# EAGLE library part IMX357 (library JLB6_Processor)
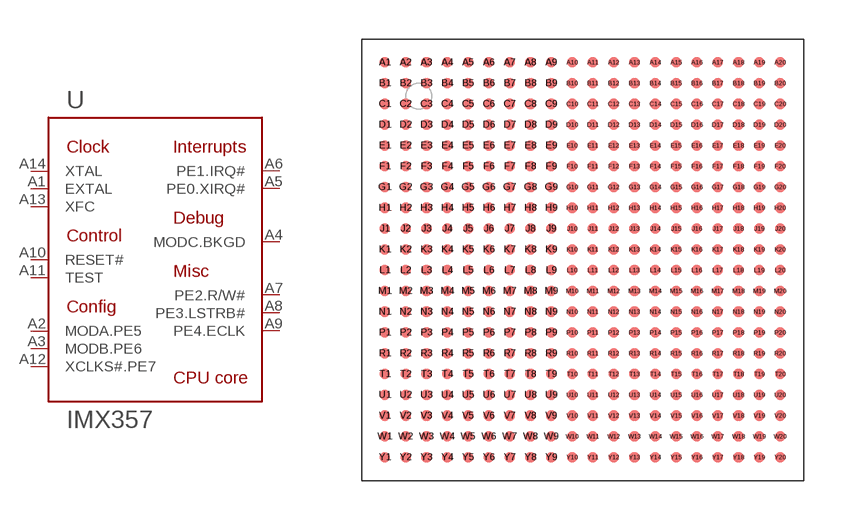
[diagram p25: symbol with the pads of BGA400; footprint BGA400]

Designator prefix U

## IMX357  [BGA400]
A1  EXTAL  in
A2  MODA.PE5
A3  MODB.PE6
A4  MODC.BKGD
A5  PE0.XIRQ#
A6  PE1.IRQ#
A7  PE2.R/W#
A8  PE3.LSTRB#
A9  PE4.ECLK
A10  RESET#
A11  TEST
A12  XCLKS#.PE7
A13  XFC
A14  XTAL  out

## Footprint BGA400 (pad centres in mm)
smd 0.4 x 0.4: A1 -7.6,7.6; A2 -6.8,7.6; A3 -6,7.6; A4 -5.2,7.6; A5 -4.4,7.6; A6 -3.6,7.6; A7 -2.8,7.6; A8 -2,7.6; A9 -1.2,7.6; A10 -0.4,7.6; A11 0.4,7.6; A12 1.2,7.6; A13 2,7.6; A14 2.8,7.6; A15 3.6,7.6; A16 4.4,7.6; A17 5.2,7.6; A18 6,7.6; A19 6.8,7.6; A20 7.6,7.6; B1 -7.6,6.8; B2 -6.8,6.8; B3 -6,6.8; B4 -5.2,6.8; B5 -4.4,6.8; B6 -3.6,6.8; B7 -2.8,6.8; B8 -2,6.8; B9 -1.2,6.8; B10 -0.4,6.8; B11 0.4,6.8; B12 1.2,6.8; B13 2,6.8; B14 2.8,6.8; B15 3.6,6.8; B16 4.4,6.8; B17 5.2,6.8; B18 6,6.8; B19 6.8,6.8; B20 7.6,6.8; C1 -7.6,6; C2 -6.8,6; C3 -6,6; C4 -5.2,6; C5 -4.4,6; C6 -3.6,6; C7 -2.8,6; C8 -2,6; C9 -1.2,6; C10 -0.4,6; C11 0.4,6; C12 1.2,6; C13 2,6; C14 2.8,6; C15 3.6,6; C16 4.4,6; C17 5.2,6; C18 6,6; C19 6.8,6; C20 7.6,6; D1 -7.6,5.2; D2 -6.8,5.2; D3 -6,5.2; D4 -5.2,5.2; D5 -4.4,5.2; D6 -3.6,5.2; D7 -2.8,5.2; D8 -2,5.2; D9 -1.2,5.2; D10 -0.4,5.2; D11 0.4,5.2; D12 1.2,5.2; D13 2,5.2; D14 2.8,5.2; D15 3.6,5.2; D16 4.4,5.2; D17 5.2,5.2; D18 6,5.2; D19 6.8,5.2; D20 7.6,5.2; E1 -7.6,4.4; E2 -6.8,4.4; E3 -6,4.4; E4 -5.2,4.4; E5 -4.4,4.4; E6 -3.6,4.4; E7 -2.8,4.4; E8 -2,4.4; E9 -1.2,4.4; E10 -0.4,4.4; E11 0.4,4.4; E12 1.2,4.4; E13 2,4.4; E14 2.8,4.4; E15 3.6,4.4; E16 4.4,4.4; E17 5.2,4.4; E18 6,4.4; E19 6.8,4.4; E20 7.6,4.4; F1 -7.6,3.6; F2 -6.8,3.6; F3 -6,3.6; F4 -5.2,3.6; F5 -4.4,3.6; F6 -3.6,3.6; F7 -2.8,3.6; F8 -2,3.6; F9 -1.2,3.6; F10 -0.4,3.6; F11 0.4,3.6; F12 1.2,3.6; F13 2,3.6; F14 2.8,3.6; F15 3.6,3.6; F16 4.4,3.6; F17 5.2,3.6; F18 6,3.6; F19 6.8,3.6; F20 7.6,3.6; G1 -7.6,2.8; G2 -6.8,2.8; G3 -6,2.8; G4 -5.2,2.8; G5 -4.4,2.8; G6 -3.6,2.8; G7 -2.8,2.8; G8 -2,2.8; G9 -1.2,2.8; G10 -0.4,2.8; G11 0.4,2.8; G12 1.2,2.8; G13 2,2.8; G14 2.8,2.8; G15 3.6,2.8; G16 4.4,2.8; G17 5.2,2.8; G18 6,2.8; G19 6.8,2.8; G20 7.6,2.8; H1 -7.6,2; H2 -6.8,2; H3 -6,2; H4 -5.2,2; H5 -4.4,2; H6 -3.6,2; H7 -2.8,2; H8 -2,2; H9 -1.2,2; H10 -0.4,2; H11 0.4,2; H12 1.2,2; H13 2,2; H14 2.8,2; H15 3.6,2; H16 4.4,2; H17 5.2,2; H18 6,2; H19 6.8,2; H20 7.6,2; J1 -7.6,1.2; J2 -6.8,1.2; J3 -6,1.2; J4 -5.2,1.2; J5 -4.4,1.2; J6 -3.6,1.2; J7 -2.8,1.2; J8 -2,1.2; J9 -1.2,1.2; J10 -0.4,1.2; J11 0.4,1.2; J12 1.2,1.2; J13 2,1.2; J14 2.8,1.2; J15 3.6,1.2; J16 4.4,1.2; J17 5.2,1.2; J18 6,1.2; J19 6.8,1.2; J20 7.6,1.2; K1 -7.6,0.4; K2 -6.8,0.4; K3 -6,0.4; K4 -5.2,0.4; K5 -4.4,0.4; K6 -3.6,0.4; K7 -2.8,0.4; K8 -2,0.4; K9 -1.2,0.4; K10 -0.4,0.4; K11 0.4,0.4; K12 1.2,0.4; K13 2,0.4; K14 2.8,0.4; K15 3.6,0.4; K16 4.4,0.4; K17 5.2,0.4; K18 6,0.4; K19 6.8,0.4; K20 7.6,0.4; L1 -7.6,-0.4; L2 -6.8,-0.4; L3 -6,-0.4; L4 -5.2,-0.4; L5 -4.4,-0.4; L6 -3.6,-0.4; L7 -2.8,-0.4; L8 -2,-0.4; L9 -1.2,-0.4; L10 -0.4,-0.4; L11 0.4,-0.4; L12 1.2,-0.4; L13 2,-0.4; L14 2.8,-0.4; L15 3.6,-0.4; L16 4.4,-0.4; L17 5.2,-0.4; L18 6,-0.4; L19 6.8,-0.4; L20 7.6,-0.4; M1 -7.6,-1.2; M2 -6.8,-1.2; M3 -6,-1.2; M4 -5.2,-1.2; M5 -4.4,-1.2; M6 -3.6,-1.2; M7 -2.8,-1.2; M8 -2,-1.2; M9 -1.2,-1.2; M10 -0.4,-1.2; M11 0.4,-1.2; M12 1.2,-1.2; M13 2,-1.2; M14 2.8,-1.2; M15 3.6,-1.2; M16 4.4,-1.2; M17 5.2,-1.2; M18 6,-1.2; M19 6.8,-1.2; M20 7.6,-1.2; N1 -7.6,-2; N2 -6.8,-2; N3 -6,-2; N4 -5.2,-2; N5 -4.4,-2; N6 -3.6,-2; N7 -2.8,-2; N8 -2,-2; N9 -1.2,-2; N10 -0.4,-2; N11 0.4,-2; N12 1.2,-2; N13 2,-2; N14 2.8,-2; N15 3.6,-2; N16 4.4,-2; N17 5.2,-2; N18 6,-2; N19 6.8,-2; N20 7.6,-2; P1 -7.6,-2.8; P2 -6.8,-2.8; P3 -6,-2.8; P4 -5.2,-2.8; P5 -4.4,-2.8; P6 -3.6,-2.8; P7 -2.8,-2.8; P8 -2,-2.8; P9 -1.2,-2.8; P10 -0.4,-2.8; P11 0.4,-2.8; P12 1.2,-2.8; P13 2,-2.8; P14 2.8,-2.8; P15 3.6,-2.8; P16 4.4,-2.8; P17 5.2,-2.8; P18 6,-2.8; P19 6.8,-2.8; P20 7.6,-2.8; R1 -7.6,-3.6; R2 -6.8,-3.6; R3 -6,-3.6; R4 -5.2,-3.6; R5 -4.4,-3.6; R6 -3.6,-3.6; R7 -2.8,-3.6; R8 -2,-3.6; R9 -1.2,-3.6; R10 -0.4,-3.6; R11 0.4,-3.6; R12 1.2,-3.6; R13 2,-3.6; R14 2.8,-3.6; R15 3.6,-3.6; R16 4.4,-3.6; R17 5.2,-3.6; R18 6,-3.6; R19 6.8,-3.6; R20 7.6,-3.6; T1 -7.6,-4.4; T2 -6.8,-4.4; T3 -6,-4.4; T4 -5.2,-4.4; T5 -4.4,-4.4; T6 -3.6,-4.4; T7 -2.8,-4.4; T8 -2,-4.4; T9 -1.2,-4.4; T10 -0.4,-4.4; T11 0.4,-4.4; T12 1.2,-4.4; T13 2,-4.4; T14 2.8,-4.4; T15 3.6,-4.4; T16 4.4,-4.4; T17 5.2,-4.4; T18 6,-4.4; T19 6.8,-4.4; T20 7.6,-4.4; U1 -7.6,-5.2; U2 -6.8,-5.2; U3 -6,-5.2; U4 -5.2,-5.2; U5 -4.4,-5.2; U6 -3.6,-5.2; U7 -2.8,-5.2; U8 -2,-5.2; U9 -1.2,-5.2; U10 -0.4,-5.2; U11 0.4,-5.2; U12 1.2,-5.2; U13 2,-5.2; U14 2.8,-5.2; U15 3.6,-5.2; U16 4.4,-5.2; U17 5.2,-5.2; U18 6,-5.2; U19 6.8,-5.2; U20 7.6,-5.2; V1 -7.6,-6; V2 -6.8,-6; V3 -6,-6; V4 -5.2,-6; V5 -4.4,-6; V6 -3.6,-6; V7 -2.8,-6; V8 -2,-6; V9 -1.2,-6; V10 -0.4,-6; V11 0.4,-6; V12 1.2,-6; V13 2,-6; V14 2.8,-6; V15 3.6,-6; V16 4.4,-6; V17 5.2,-6; V18 6,-6; V19 6.8,-6; V20 7.6,-6; W1 -7.6,-6.8; W2 -6.8,-6.8; W3 -6,-6.8; W4 -5.2,-6.8; W5 -4.4,-6.8; W6 -3.6,-6.8; W7 -2.8,-6.8; W8 -2,-6.8; W9 -1.2,-6.8; W10 -0.4,-6.8; W11 0.4,-6.8; W12 1.2,-6.8; W13 2,-6.8; W14 2.8,-6.8; W15 3.6,-6.8; W16 4.4,-6.8; W17 5.2,-6.8; W18 6,-6.8; W19 6.8,-6.8; W20 7.6,-6.8; Y1 -7.6,-7.6; Y2 -6.8,-7.6; Y3 -6,-7.6; Y4 -5.2,-7.6; Y5 -4.4,-7.6; Y6 -3.6,-7.6; Y7 -2.8,-7.6; Y8 -2,-7.6; Y9 -1.2,-7.6; Y10 -0.4,-7.6; Y11 0.4,-7.6; Y12 1.2,-7.6; Y13 2,-7.6; Y14 2.8,-7.6; Y15 3.6,-7.6; Y16 4.4,-7.6; Y17 5.2,-7.6; Y18 6,-7.6; Y19 6.8,-7.6; Y20 7.6,-7.6